# Altium schematic symbol library kmilo17pet-LT_ChargePump.SchLib: 599 symbols (part 2 of 29)
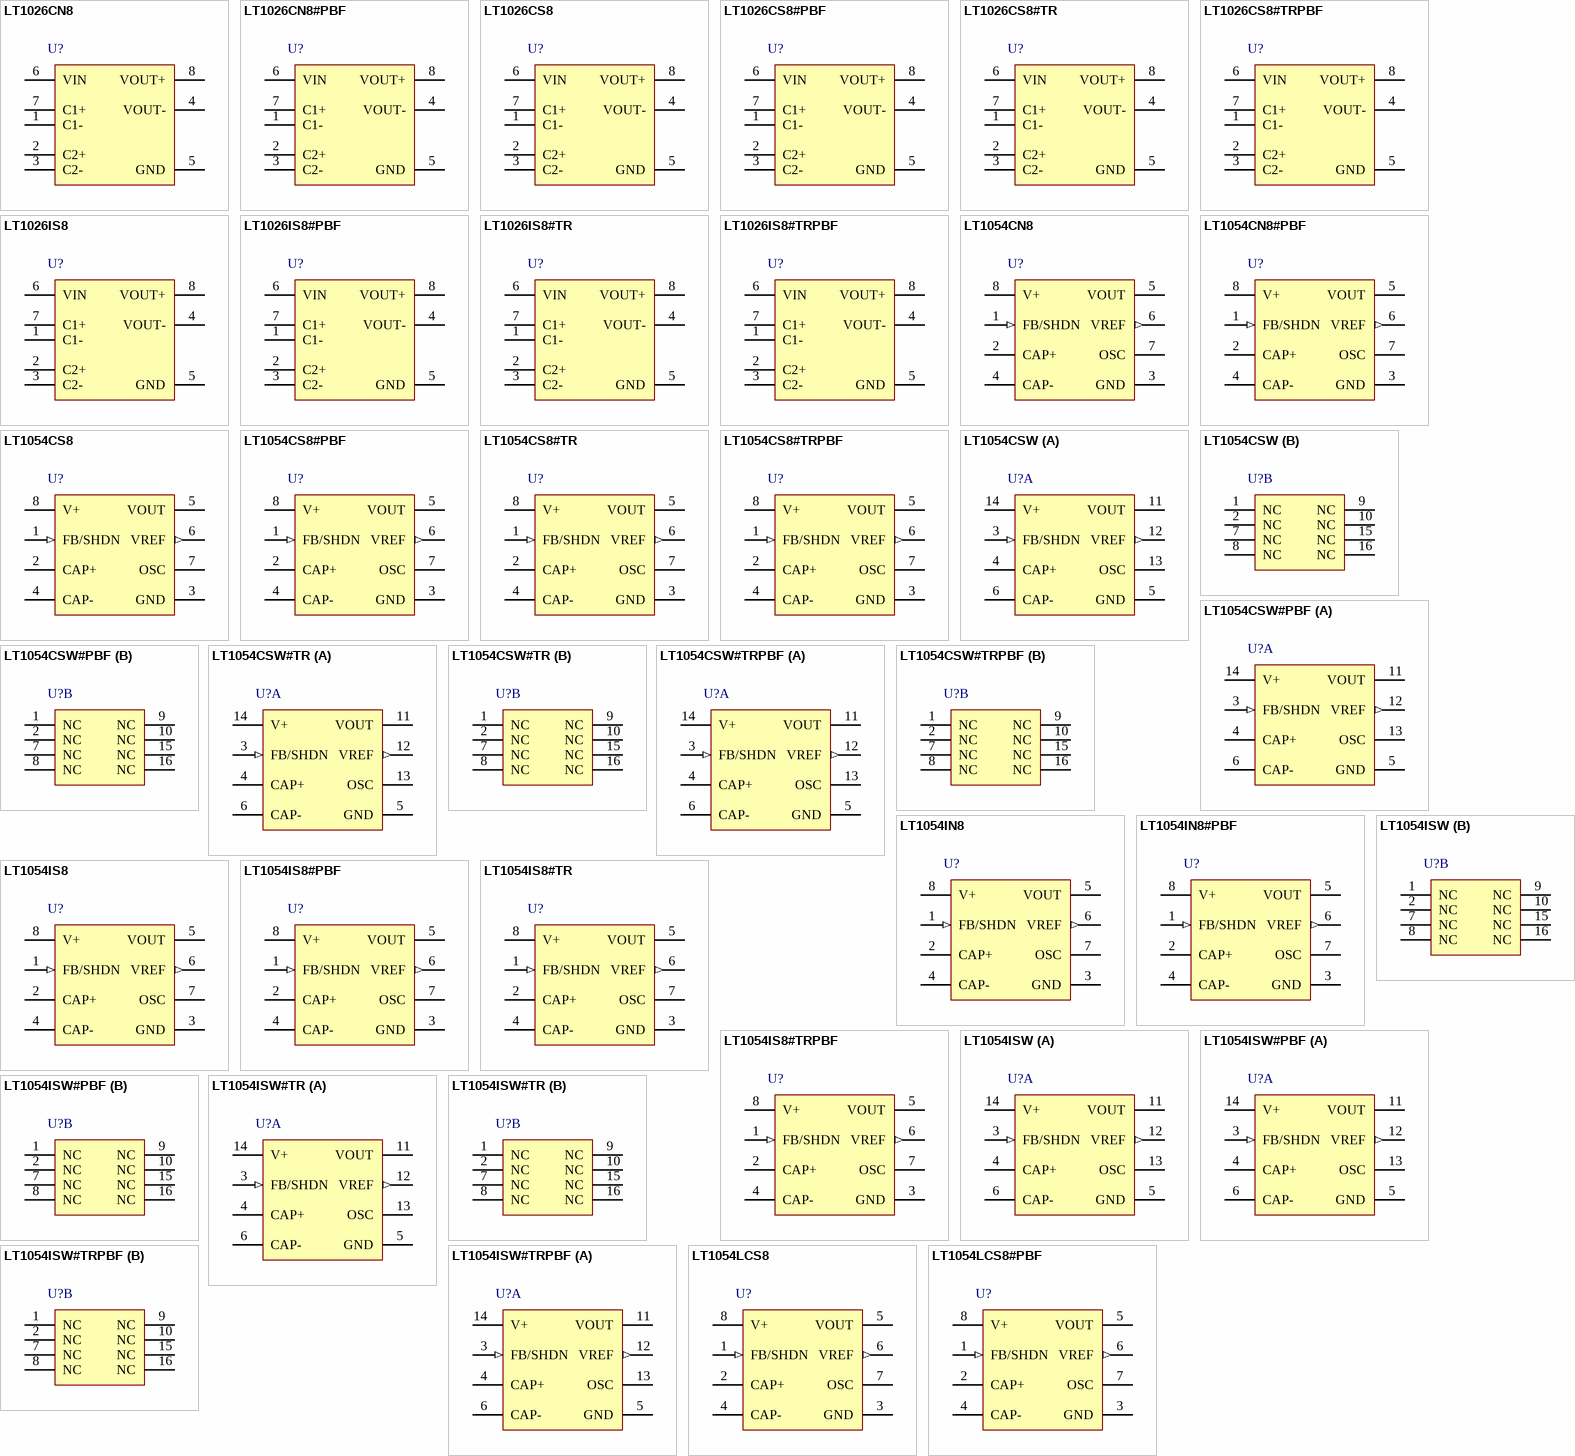
[diagram p17: symbols LT1026CN8 to LT1054LCS8#PBF]

## LT1054IS8#PBF
designator U?
Switched-Capacitor Voltage Converter with Regulator, 3.5 to 15 V Vin, Adjustable Vout, 8-pin SOIC (S8-8), -40 to 100 degC, Pb-Free; Manufacturer: Linear Technology; PartNumber: LT1054IS8#PBF; Frequency(kHz): 25; Ishutdown(uA): 100; Isupply(mA): 2.5; Vin Max(V): 15; Vin Min(V): 3.5; Voutput: Adj; DatasheetVersion: Rev. G; PackageVersion: Rev. G, 03/2012; PackageReference: S8-8; PackageDescription: 8-Pin Plastic Small Outline (Narrow .150 Inch), Body 4.9 x 3.9 mm, Pitch 1.27 mm; Supplier 1: Digi-Key; Supplier Part Number 1: LT1054IS8#PBF-ND; Supplier 2: Farnell; Supplier Part Number 2: 1663341; Supplier 3: Newark; Supplier Part Number 3: 57M1198; Max Iout(mA): 100; RoHS: TRUE; Mounting Technology: Surface Mount; ComponentLink1Description: Manufacturer URL; ComponentLink1URL: http://www.linear.com/; ComponentLink2Description: Datasheet; ComponentLink2URL: http://cds.linear.com/docs/en/datasheet/1054lfg.pdf; ComponentLink3Description: Package Specification; ComponentLink3URL: http://cds.linear.com/docs/en/packaging/05081610_G_SO8.pdf
footprint LT-S8-8_N (SOIC, 8-Leads, Body 5x4mm, Pitch 1.27mm, IPC Medium Density)
footprint LT-S8-8_L (SOIC, 8-Leads, Body 5x4mm, Pitch 1.27mm, IPC High Density)
footprint LT-S8-8_M (SOIC, 8-Leads, Body 5x4mm, Pitch 1.27mm, IPC Low Density)
pins: 1 FB/SHDN (in), 2 CAP+ "Pin 2, the positive side of the input capacitor (CIN), is alternately driven between V + and ground. When driven to V+, Pin 2 sources current from V+. When driven to ground Pin 2 sinks current to ground. Pin 4, the negative (See Datasheet)", 3 GND (power), 4 CAP- "Pin 2, the positive side of the input capacitor (CIN), is alternately driven between V + and ground. When driven to V+, Pin 2 sources current from V+. When driven to ground Pin 2 sinks current to ground. Pin 4, the negative (See Datasheet)", 5 VOUT (power) "In addition to being the output pin this pin is also tied to the substrate of the device. Special care must be taken in LT1054 circuits to avoid pulling this pin positive with respect to any of the other pins. Pulling Pin 5 (See Datasheet)", 6 VREF (out) "Reference Output. This pin provides a 2.5V reference point for use in LT1054-based regulator circuits. The temperature coefficient of the reference voltage has been adjusted so that the temperature coefficient of the (See Datasheet)", 7 OSC "Oscillator Pin. This pin can be used to raise or lower the oscillator frequency or to synchronize the device to an external clock. Internally Pin 7 is connected to the oscillator timing capacitor (Ct  approx= 150pF) which is (See Datasheet)", 8 V+ (power) "Input Supply. The LT1054 alternately charges CIN to the input voltage when CIN is switched in parallel with the input supply and then transfers charge to COUT when CIN is switched in parallel with COUT. Switching occurs at (See Datasheet)"

## LT1054IS8#TR
designator U?
Switched-Capacitor Voltage Converter with Regulator, 3.5 to 15 V Vin, Adjustable Vout, 8-pin SOIC (S8-8), -40 to 100 degC, Tape and Reel; Manufacturer: Linear Technology; PartNumber: LT1054IS8#TR; Frequency(kHz): 25; Ishutdown(uA): 100; Isupply(mA): 2.5; Vin Max(V): 15; Vin Min(V): 3.5; Voutput: Adj; DatasheetVersion: Rev. G; PackageVersion: Rev. G, 03/2012; PackageReference: S8-8; PackageDescription: 8-Pin Plastic Small Outline (Narrow .150 Inch), Body 4.9 x 3.9 mm, Pitch 1.27 mm; Supplier 1: Digi-Key; Supplier Part Number 1: LT1054IS8#TR-ND; Supplier 2: Newark; Supplier Part Number 2: 57M1199; Max Iout(mA): 100; Packing: Tape and Reel; RoHS: FALSE; Mounting Technology: Surface Mount; ComponentLink1Description: Manufacturer URL; ComponentLink1URL: http://www.linear.com/; ComponentLink2Description: Datasheet; ComponentLink2URL: http://cds.linear.com/docs/en/datasheet/1054lfg.pdf; ComponentLink3Description: Package Specification; ComponentLink3URL: http://cds.linear.com/docs/en/packaging/05081610_G_SO8.pdf
footprint LT-S8-8_N (SOIC, 8-Leads, Body 5x4mm, Pitch 1.27mm, IPC Medium Density)
footprint LT-S8-8_L (SOIC, 8-Leads, Body 5x4mm, Pitch 1.27mm, IPC High Density)
footprint LT-S8-8_M (SOIC, 8-Leads, Body 5x4mm, Pitch 1.27mm, IPC Low Density)
pins: 1 FB/SHDN (in), 2 CAP+ "Pin 2, the positive side of the input capacitor (CIN), is alternately driven between V + and ground. When driven to V+, Pin 2 sources current from V+. When driven to ground Pin 2 sinks current to ground. Pin 4, the negative (See Datasheet)", 3 GND (power), 4 CAP- "Pin 2, the positive side of the input capacitor (CIN), is alternately driven between V + and ground. When driven to V+, Pin 2 sources current from V+. When driven to ground Pin 2 sinks current to ground. Pin 4, the negative (See Datasheet)", 5 VOUT (power) "In addition to being the output pin this pin is also tied to the substrate of the device. Special care must be taken in LT1054 circuits to avoid pulling this pin positive with respect to any of the other pins. Pulling Pin 5 (See Datasheet)", 6 VREF (out) "Reference Output. This pin provides a 2.5V reference point for use in LT1054-based regulator circuits. The temperature coefficient of the reference voltage has been adjusted so that the temperature coefficient of the (See Datasheet)", 7 OSC "Oscillator Pin. This pin can be used to raise or lower the oscillator frequency or to synchronize the device to an external clock. Internally Pin 7 is connected to the oscillator timing capacitor (Ct  approx= 150pF) which is (See Datasheet)", 8 V+ (power) "Input Supply. The LT1054 alternately charges CIN to the input voltage when CIN is switched in parallel with the input supply and then transfers charge to COUT when CIN is switched in parallel with COUT. Switching occurs at (See Datasheet)"

## LT1054IS8#TRPBF
designator U?
Switched-Capacitor Voltage Converter with Regulator, 3.5 to 15 V Vin, Adjustable Vout, 8-pin SOIC (S8-8), -40 to 100 degC, Pb-Free, Tape and Reel; Manufacturer: Linear Technology; PartNumber: LT1054IS8#TRPBF; Frequency(kHz): 25; Ishutdown(uA): 100; Isupply(mA): 2.5; Vin Max(V): 15; Vin Min(V): 3.5; Voutput: Adj; DatasheetVersion: Rev. G; PackageVersion: Rev. G, 03/2012; PackageReference: S8-8; PackageDescription: 8-Pin Plastic Small Outline (Narrow .150 Inch), Body 4.9 x 3.9 mm, Pitch 1.27 mm; Supplier 1: Digi-Key; Supplier Part Number 1: LT1054IS8#TRPBF-ND; Supplier 2: Newark; Supplier Part Number 2: 57M1200; Max Iout(mA): 100; Packing: Tape and Reel; RoHS: TRUE; Mounting Technology: Surface Mount; ComponentLink1Description: Manufacturer URL; ComponentLink1URL: http://www.linear.com/; ComponentLink2Description: Datasheet; ComponentLink2URL: http://cds.linear.com/docs/en/datasheet/1054lfg.pdf; ComponentLink3Description: Package Specification; ComponentLink3URL: http://cds.linear.com/docs/en/packaging/05081610_G_SO8.pdf
footprint LT-S8-8_N (SOIC, 8-Leads, Body 5x4mm, Pitch 1.27mm, IPC Medium Density)
footprint LT-S8-8_L (SOIC, 8-Leads, Body 5x4mm, Pitch 1.27mm, IPC High Density)
footprint LT-S8-8_M (SOIC, 8-Leads, Body 5x4mm, Pitch 1.27mm, IPC Low Density)
pins: 1 FB/SHDN (in), 2 CAP+ "Pin 2, the positive side of the input capacitor (CIN), is alternately driven between V + and ground. When driven to V+, Pin 2 sources current from V+. When driven to ground Pin 2 sinks current to ground. Pin 4, the negative (See Datasheet)", 3 GND (power), 4 CAP- "Pin 2, the positive side of the input capacitor (CIN), is alternately driven between V + and ground. When driven to V+, Pin 2 sources current from V+. When driven to ground Pin 2 sinks current to ground. Pin 4, the negative (See Datasheet)", 5 VOUT (power) "In addition to being the output pin this pin is also tied to the substrate of the device. Special care must be taken in LT1054 circuits to avoid pulling this pin positive with respect to any of the other pins. Pulling Pin 5 (See Datasheet)", 6 VREF (out) "Reference Output. This pin provides a 2.5V reference point for use in LT1054-based regulator circuits. The temperature coefficient of the reference voltage has been adjusted so that the temperature coefficient of the (See Datasheet)", 7 OSC "Oscillator Pin. This pin can be used to raise or lower the oscillator frequency or to synchronize the device to an external clock. Internally Pin 7 is connected to the oscillator timing capacitor (Ct  approx= 150pF) which is (See Datasheet)", 8 V+ (power) "Input Supply. The LT1054 alternately charges CIN to the input voltage when CIN is switched in parallel with the input supply and then transfers charge to COUT when CIN is switched in parallel with COUT. Switching occurs at (See Datasheet)"

## LT1054ISW
designator U?
Switched-Capacitor Voltage Converter with Regulator, 3.5 to 15 V Vin, Adjustable Vout, 16-pin SOIC (SW-16), -40 to 100 degC; Manufacturer: Linear Technology; PartNumber: LT1054ISW; Frequency(kHz): 25; Ishutdown(uA): 100; Isupply(mA): 2.5; Vin Max(V): 15; Vin Min(V): 3.5; Voutput: Adj; DatasheetVersion: Rev. G; PackageVersion: Jun-10; PackageReference: SW-16; PackageDescription: 16-Pin Plastic Small Outline, Body 10.30 x 7.49 mm, Pitch 1.27 mm; Supplier 1: Digi-Key; Supplier Part Number 1: LT1054ISW-ND; Max Iout(mA): 100; RoHS: FALSE; Mounting Technology: Surface Mount; ComponentLink1Description: Manufacturer URL; ComponentLink1URL: http://www.linear.com/; ComponentLink2Description: Datasheet; ComponentLink2URL: http://cds.linear.com/docs/en/datasheet/1054lfg.pdf; ComponentLink3Description: Package Specification; ComponentLink3URL: http://www.linear.com/docs/en/packaging/SO_16_05-08-1620.pdf
footprint LT-SW-16_N (SOIC, 16-Leads, Body 10.3x7.49mm, Pitch 1.27mm, IPC Medium Density)
footprint LT-SW-16_L (SOIC, 16-Leads, Body 10.3x7.49mm, Pitch 1.27mm, IPC High Density)
footprint LT-SW-16_M (SOIC, 16-Leads, Body 10.3x7.49mm, Pitch 1.27mm, IPC Low Density)
part A pins: 3 FB/SHDN (in), 4 CAP+ "Pin 2, the positive side of the input capacitor (CIN), is alternately driven between V + and ground. When driven to V+, Pin 2 sources current from V+. When driven to ground Pin 2 sinks current to ground. Pin 4, the negative (See Datasheet)", 5 GND (power), 6 CAP- "Pin 2, the positive side of the input capacitor (CIN), is alternately driven between V + and ground. When driven to V+, Pin 2 sources current from V+. When driven to ground Pin 2 sinks current to ground. Pin 4, the negative (See Datasheet)", 11 VOUT (power) "In addition to being the output pin this pin is also tied to the substrate of the device. Special care must be taken in LT1054 circuits to avoid pulling this pin positive with respect to any of the other pins. Pulling Pin 5 (See Datasheet)", 12 VREF (out) "Reference Output. This pin provides a 2.5V reference point for use in LT1054-based regulator circuits. The temperature coefficient of the reference voltage has been adjusted so that the temperature coefficient of the (See Datasheet)", 13 OSC "Oscillator Pin. This pin can be used to raise or lower the oscillator frequency or to synchronize the device to an external clock. Internally Pin 7 is connected to the oscillator timing capacitor (Ct  approx= 150pF) which is (See Datasheet)", 14 V+ (power) "Input Supply. The LT1054 alternately charges CIN to the input voltage when CIN is switched in parallel with the input supply and then transfers charge to COUT when CIN is switched in parallel with COUT. Switching occurs at (See Datasheet)"
part B pins: 1 NC, 2 NC, 7 NC, 8 NC, 9 NC, 10 NC, 15 NC, 16 NC

## LT1054ISW#PBF
designator U?
Switched-Capacitor Voltage Converter with Regulator, 3.5 to 15 V Vin, Adjustable Vout, 16-pin SOIC (SW-16), -40 to 100 degC, Pb-Free; Manufacturer: Linear Technology; PartNumber: LT1054ISW#PBF; Frequency(kHz): 25; Ishutdown(uA): 100; Isupply(mA): 2.5; Vin Max(V): 15; Vin Min(V): 3.5; Voutput: Adj; DatasheetVersion: Rev. G; PackageVersion: Jun-10; PackageReference: SW-16; PackageDescription: 16-Pin Plastic Small Outline, Body 10.30 x 7.49 mm, Pitch 1.27 mm; Supplier 1: Digi-Key; Supplier Part Number 1: LT1054ISW#PBF-ND; Supplier 2: Farnell; Supplier Part Number 2: 2211398; Supplier 3: Newark; Supplier Part Number 3: 57M1194; Max Iout(mA): 100; RoHS: TRUE; Mounting Technology: Surface Mount; ComponentLink1Description: Manufacturer URL; ComponentLink1URL: http://www.linear.com/; ComponentLink2Description: Datasheet; ComponentLink2URL: http://cds.linear.com/docs/en/datasheet/1054lfg.pdf; ComponentLink3Description: Package Specification; ComponentLink3URL: http://www.linear.com/docs/en/packaging/SO_16_05-08-1620.pdf
footprint LT-SW-16_N (SOIC, 16-Leads, Body 10.3x7.49mm, Pitch 1.27mm, IPC Medium Density)
footprint LT-SW-16_L (SOIC, 16-Leads, Body 10.3x7.49mm, Pitch 1.27mm, IPC High Density)
footprint LT-SW-16_M (SOIC, 16-Leads, Body 10.3x7.49mm, Pitch 1.27mm, IPC Low Density)
part A pins: 3 FB/SHDN (in), 4 CAP+ "Pin 2, the positive side of the input capacitor (CIN), is alternately driven between V + and ground. When driven to V+, Pin 2 sources current from V+. When driven to ground Pin 2 sinks current to ground. Pin 4, the negative (See Datasheet)", 5 GND (power), 6 CAP- "Pin 2, the positive side of the input capacitor (CIN), is alternately driven between V + and ground. When driven to V+, Pin 2 sources current from V+. When driven to ground Pin 2 sinks current to ground. Pin 4, the negative (See Datasheet)", 11 VOUT (power) "In addition to being the output pin this pin is also tied to the substrate of the device. Special care must be taken in LT1054 circuits to avoid pulling this pin positive with respect to any of the other pins. Pulling Pin 5 (See Datasheet)", 12 VREF (out) "Reference Output. This pin provides a 2.5V reference point for use in LT1054-based regulator circuits. The temperature coefficient of the reference voltage has been adjusted so that the temperature coefficient of the (See Datasheet)", 13 OSC "Oscillator Pin. This pin can be used to raise or lower the oscillator frequency or to synchronize the device to an external clock. Internally Pin 7 is connected to the oscillator timing capacitor (Ct  approx= 150pF) which is (See Datasheet)", 14 V+ (power) "Input Supply. The LT1054 alternately charges CIN to the input voltage when CIN is switched in parallel with the input supply and then transfers charge to COUT when CIN is switched in parallel with COUT. Switching occurs at (See Datasheet)"
part B pins: 1 NC, 2 NC, 7 NC, 8 NC, 9 NC, 10 NC, 15 NC, 16 NC

## LT1054ISW#TR
designator U?
Switched-Capacitor Voltage Converter with Regulator, 3.5 to 15 V Vin, Adjustable Vout, 16-pin SOIC (SW-16), -40 to 100 degC, Tape and Reel; Manufacturer: Linear Technology; PartNumber: LT1054ISW#TR; Frequency(kHz): 25; Ishutdown(uA): 100; Isupply(mA): 2.5; Vin Max(V): 15; Vin Min(V): 3.5; Voutput: Adj; DatasheetVersion: Rev. G; PackageVersion: Jun-10; PackageReference: SW-16; PackageDescription: 16-Pin Plastic Small Outline, Body 10.30 x 7.49 mm, Pitch 1.27 mm; Supplier 1: Digi-Key; Supplier Part Number 1: LT1054ISW#TR-ND; Max Iout(mA): 100; Packing: Tape and Reel; RoHS: FALSE; Mounting Technology: Surface Mount; ComponentLink1Description: Manufacturer URL; ComponentLink1URL: http://www.linear.com/; ComponentLink2Description: Datasheet; ComponentLink2URL: http://cds.linear.com/docs/en/datasheet/1054lfg.pdf; ComponentLink3Description: Package Specification; ComponentLink3URL: http://www.linear.com/docs/en/packaging/SO_16_05-08-1620.pdf
footprint LT-SW-16_N (SOIC, 16-Leads, Body 10.3x7.49mm, Pitch 1.27mm, IPC Medium Density)
footprint LT-SW-16_L (SOIC, 16-Leads, Body 10.3x7.49mm, Pitch 1.27mm, IPC High Density)
footprint LT-SW-16_M (SOIC, 16-Leads, Body 10.3x7.49mm, Pitch 1.27mm, IPC Low Density)
part A pins: 3 FB/SHDN (in), 4 CAP+ "Pin 2, the positive side of the input capacitor (CIN), is alternately driven between V + and ground. When driven to V+, Pin 2 sources current from V+. When driven to ground Pin 2 sinks current to ground. Pin 4, the negative (See Datasheet)", 5 GND (power), 6 CAP- "Pin 2, the positive side of the input capacitor (CIN), is alternately driven between V + and ground. When driven to V+, Pin 2 sources current from V+. When driven to ground Pin 2 sinks current to ground. Pin 4, the negative (See Datasheet)", 11 VOUT (power) "In addition to being the output pin this pin is also tied to the substrate of the device. Special care must be taken in LT1054 circuits to avoid pulling this pin positive with respect to any of the other pins. Pulling Pin 5 (See Datasheet)", 12 VREF (out) "Reference Output. This pin provides a 2.5V reference point for use in LT1054-based regulator circuits. The temperature coefficient of the reference voltage has been adjusted so that the temperature coefficient of the (See Datasheet)", 13 OSC "Oscillator Pin. This pin can be used to raise or lower the oscillator frequency or to synchronize the device to an external clock. Internally Pin 7 is connected to the oscillator timing capacitor (Ct  approx= 150pF) which is (See Datasheet)", 14 V+ (power) "Input Supply. The LT1054 alternately charges CIN to the input voltage when CIN is switched in parallel with the input supply and then transfers charge to COUT when CIN is switched in parallel with COUT. Switching occurs at (See Datasheet)"
part B pins: 1 NC, 2 NC, 7 NC, 8 NC, 9 NC, 10 NC, 15 NC, 16 NC

## LT1054ISW#TRPBF
designator U?
Switched-Capacitor Voltage Converter with Regulator, 3.5 to 15 V Vin, Adjustable Vout, 16-pin SOIC (SW-16), -40 to 100 degC, Pb-Free, Tape and Reel; Manufacturer: Linear Technology; PartNumber: LT1054ISW#TRPBF; Frequency(kHz): 25; Ishutdown(uA): 100; Isupply(mA): 2.5; Vin Max(V): 15; Vin Min(V): 3.5; Voutput: Adj; DatasheetVersion: Rev. G; PackageVersion: Jun-10; PackageReference: SW-16; PackageDescription: 16-Pin Plastic Small Outline, Body 10.30 x 7.49 mm, Pitch 1.27 mm; Supplier 1: Digi-Key; Supplier Part Number 1: LT1054ISW#TRPBF-ND; Max Iout(mA): 100; Packing: Tape and Reel; RoHS: TRUE; Mounting Technology: Surface Mount; ComponentLink1Description: Manufacturer URL; ComponentLink1URL: http://www.linear.com/; ComponentLink2Description: Datasheet; ComponentLink2URL: http://cds.linear.com/docs/en/datasheet/1054lfg.pdf; ComponentLink3Description: Package Specification; ComponentLink3URL: http://www.linear.com/docs/en/packaging/SO_16_05-08-1620.pdf
footprint LT-SW-16_N (SOIC, 16-Leads, Body 10.3x7.49mm, Pitch 1.27mm, IPC Medium Density)
footprint LT-SW-16_L (SOIC, 16-Leads, Body 10.3x7.49mm, Pitch 1.27mm, IPC High Density)
footprint LT-SW-16_M (SOIC, 16-Leads, Body 10.3x7.49mm, Pitch 1.27mm, IPC Low Density)
part A pins: 3 FB/SHDN (in), 4 CAP+ "Pin 2, the positive side of the input capacitor (CIN), is alternately driven between V + and ground. When driven to V+, Pin 2 sources current from V+. When driven to ground Pin 2 sinks current to ground. Pin 4, the negative (See Datasheet)", 5 GND (power), 6 CAP- "Pin 2, the positive side of the input capacitor (CIN), is alternately driven between V + and ground. When driven to V+, Pin 2 sources current from V+. When driven to ground Pin 2 sinks current to ground. Pin 4, the negative (See Datasheet)", 11 VOUT (power) "In addition to being the output pin this pin is also tied to the substrate of the device. Special care must be taken in LT1054 circuits to avoid pulling this pin positive with respect to any of the other pins. Pulling Pin 5 (See Datasheet)", 12 VREF (out) "Reference Output. This pin provides a 2.5V reference point for use in LT1054-based regulator circuits. The temperature coefficient of the reference voltage has been adjusted so that the temperature coefficient of the (See Datasheet)", 13 OSC "Oscillator Pin. This pin can be used to raise or lower the oscillator frequency or to synchronize the device to an external clock. Internally Pin 7 is connected to the oscillator timing capacitor (Ct  approx= 150pF) which is (See Datasheet)", 14 V+ (power) "Input Supply. The LT1054 alternately charges CIN to the input voltage when CIN is switched in parallel with the input supply and then transfers charge to COUT when CIN is switched in parallel with COUT. Switching occurs at (See Datasheet)"
part B pins: 1 NC, 2 NC, 7 NC, 8 NC, 9 NC, 10 NC, 15 NC, 16 NC

## LT1054LCS8
designator U?
Switched-Capacitor Voltage Converter with Regulator, 3.5 to 7 V Vin, Adjustable Vout, 8-pin SOIC (S8-8), 0 to 100 degC; Manufacturer: Linear Technology; PartNumber: LT1054LCS8; Frequency(kHz): 25; Ishutdown(uA): 100; Isupply(mA): 2.5; Max Iout(mA): 125; Vin Max(V): 7; Vin Min(V): 3.5; Voutput: Adj; DatasheetVersion: Rev. G; PackageVersion: Rev. G, 03/2012; PackageReference: S8-8; PackageDescription: 8-Pin Plastic Small Outline (Narrow .150 Inch), Body 4.9 x 3.9 mm, Pitch 1.27 mm; Supplier 1: Digi-Key; Supplier Part Number 1: LT1054LCS8-ND; RoHS: FALSE; Mounting Technology: Surface Mount; ComponentLink1Description: Manufacturer URL; ComponentLink1URL: http://www.linear.com/; ComponentLink2Description: Datasheet; ComponentLink2URL: http://cds.linear.com/docs/en/datasheet/1054lfg.pdf; ComponentLink3Description: Package Specification; ComponentLink3URL: http://cds.linear.com/docs/en/packaging/05081610_G_SO8.pdf
footprint LT-S8-8_N (SOIC, 8-Leads, Body 5x4mm, Pitch 1.27mm, IPC Medium Density)
footprint LT-S8-8_L (SOIC, 8-Leads, Body 5x4mm, Pitch 1.27mm, IPC High Density)
footprint LT-S8-8_M (SOIC, 8-Leads, Body 5x4mm, Pitch 1.27mm, IPC Low Density)
pins: 1 FB/SHDN (in), 2 CAP+ "Pin 2, the positive side of the input capacitor (CIN), is alternately driven between V + and ground. When driven to V+, Pin 2 sources current from V+. When driven to ground Pin 2 sinks current to ground. Pin 4, the negative (See Datasheet)", 3 GND (power), 4 CAP- "Pin 2, the positive side of the input capacitor (CIN), is alternately driven between V + and ground. When driven to V+, Pin 2 sources current from V+. When driven to ground Pin 2 sinks current to ground. Pin 4, the negative (See Datasheet)", 5 VOUT (power) "In addition to being the output pin this pin is also tied to the substrate of the device. Special care must be taken in LT1054 circuits to avoid pulling this pin positive with respect to any of the other pins. Pulling Pin 5 (See Datasheet)", 6 VREF (out) "Reference Output. This pin provides a 2.5V reference point for use in LT1054-based regulator circuits. The temperature coefficient of the reference voltage has been adjusted so that the temperature coefficient of the (See Datasheet)", 7 OSC "Oscillator Pin. This pin can be used to raise or lower the oscillator frequency or to synchronize the device to an external clock. Internally Pin 7 is connected to the oscillator timing capacitor (Ct  approx= 150pF) which is (See Datasheet)", 8 V+ (power) "Input Supply. The LT1054 alternately charges CIN to the input voltage when CIN is switched in parallel with the input supply and then transfers charge to COUT when CIN is switched in parallel with COUT. Switching occurs at (See Datasheet)"

## LT1054LCS8#PBF
designator U?
Switched-Capacitor Voltage Converter with Regulator, 3.5 to 7 V Vin, Adjustable Vout, 8-pin SOIC (S8-8), 0 to 100 degC, Pb-Free; Manufacturer: Linear Technology; PartNumber: LT1054LCS8#PBF; Frequency(kHz): 25; Ishutdown(uA): 100; Isupply(mA): 2.5; Max Iout(mA): 125; Vin Max(V): 7; Vin Min(V): 3.5; Voutput: Adj; DatasheetVersion: Rev. G; PackageVersion: Rev. G, 03/2012; PackageReference: S8-8; PackageDescription: 8-Pin Plastic Small Outline (Narrow .150 Inch), Body 4.9 x 3.9 mm, Pitch 1.27 mm; Supplier 1: Digi-Key; Supplier Part Number 1: LT1054LCS8#PBF-ND; Supplier 2: Farnell; Supplier Part Number 2: 1663342; Supplier 3: Newark; Supplier Part Number 3: 57M1202; RoHS: TRUE; Mounting Technology: Surface Mount; ComponentLink1Description: Manufacturer URL; ComponentLink1URL: http://www.linear.com/; ComponentLink2Description: Datasheet; ComponentLink2URL: http://cds.linear.com/docs/en/datasheet/1054lfg.pdf; ComponentLink3Description: Package Specification; ComponentLink3URL: http://cds.linear.com/docs/en/packaging/05081610_G_SO8.pdf
footprint LT-S8-8_N (SOIC, 8-Leads, Body 5x4mm, Pitch 1.27mm, IPC Medium Density)
footprint LT-S8-8_L (SOIC, 8-Leads, Body 5x4mm, Pitch 1.27mm, IPC High Density)
footprint LT-S8-8_M (SOIC, 8-Leads, Body 5x4mm, Pitch 1.27mm, IPC Low Density)
pins: 1 FB/SHDN (in), 2 CAP+ "Pin 2, the positive side of the input capacitor (CIN), is alternately driven between V + and ground. When driven to V+, Pin 2 sources current from V+. When driven to ground Pin 2 sinks current to ground. Pin 4, the negative (See Datasheet)", 3 GND (power), 4 CAP- "Pin 2, the positive side of the input capacitor (CIN), is alternately driven between V + and ground. When driven to V+, Pin 2 sources current from V+. When driven to ground Pin 2 sinks current to ground. Pin 4, the negative (See Datasheet)", 5 VOUT (power) "In addition to being the output pin this pin is also tied to the substrate of the device. Special care must be taken in LT1054 circuits to avoid pulling this pin positive with respect to any of the other pins. Pulling Pin 5 (See Datasheet)", 6 VREF (out) "Reference Output. This pin provides a 2.5V reference point for use in LT1054-based regulator circuits. The temperature coefficient of the reference voltage has been adjusted so that the temperature coefficient of the (See Datasheet)", 7 OSC "Oscillator Pin. This pin can be used to raise or lower the oscillator frequency or to synchronize the device to an external clock. Internally Pin 7 is connected to the oscillator timing capacitor (Ct  approx= 150pF) which is (See Datasheet)", 8 V+ (power) "Input Supply. The LT1054 alternately charges CIN to the input voltage when CIN is switched in parallel with the input supply and then transfers charge to COUT when CIN is switched in parallel with COUT. Switching occurs at (See Datasheet)"

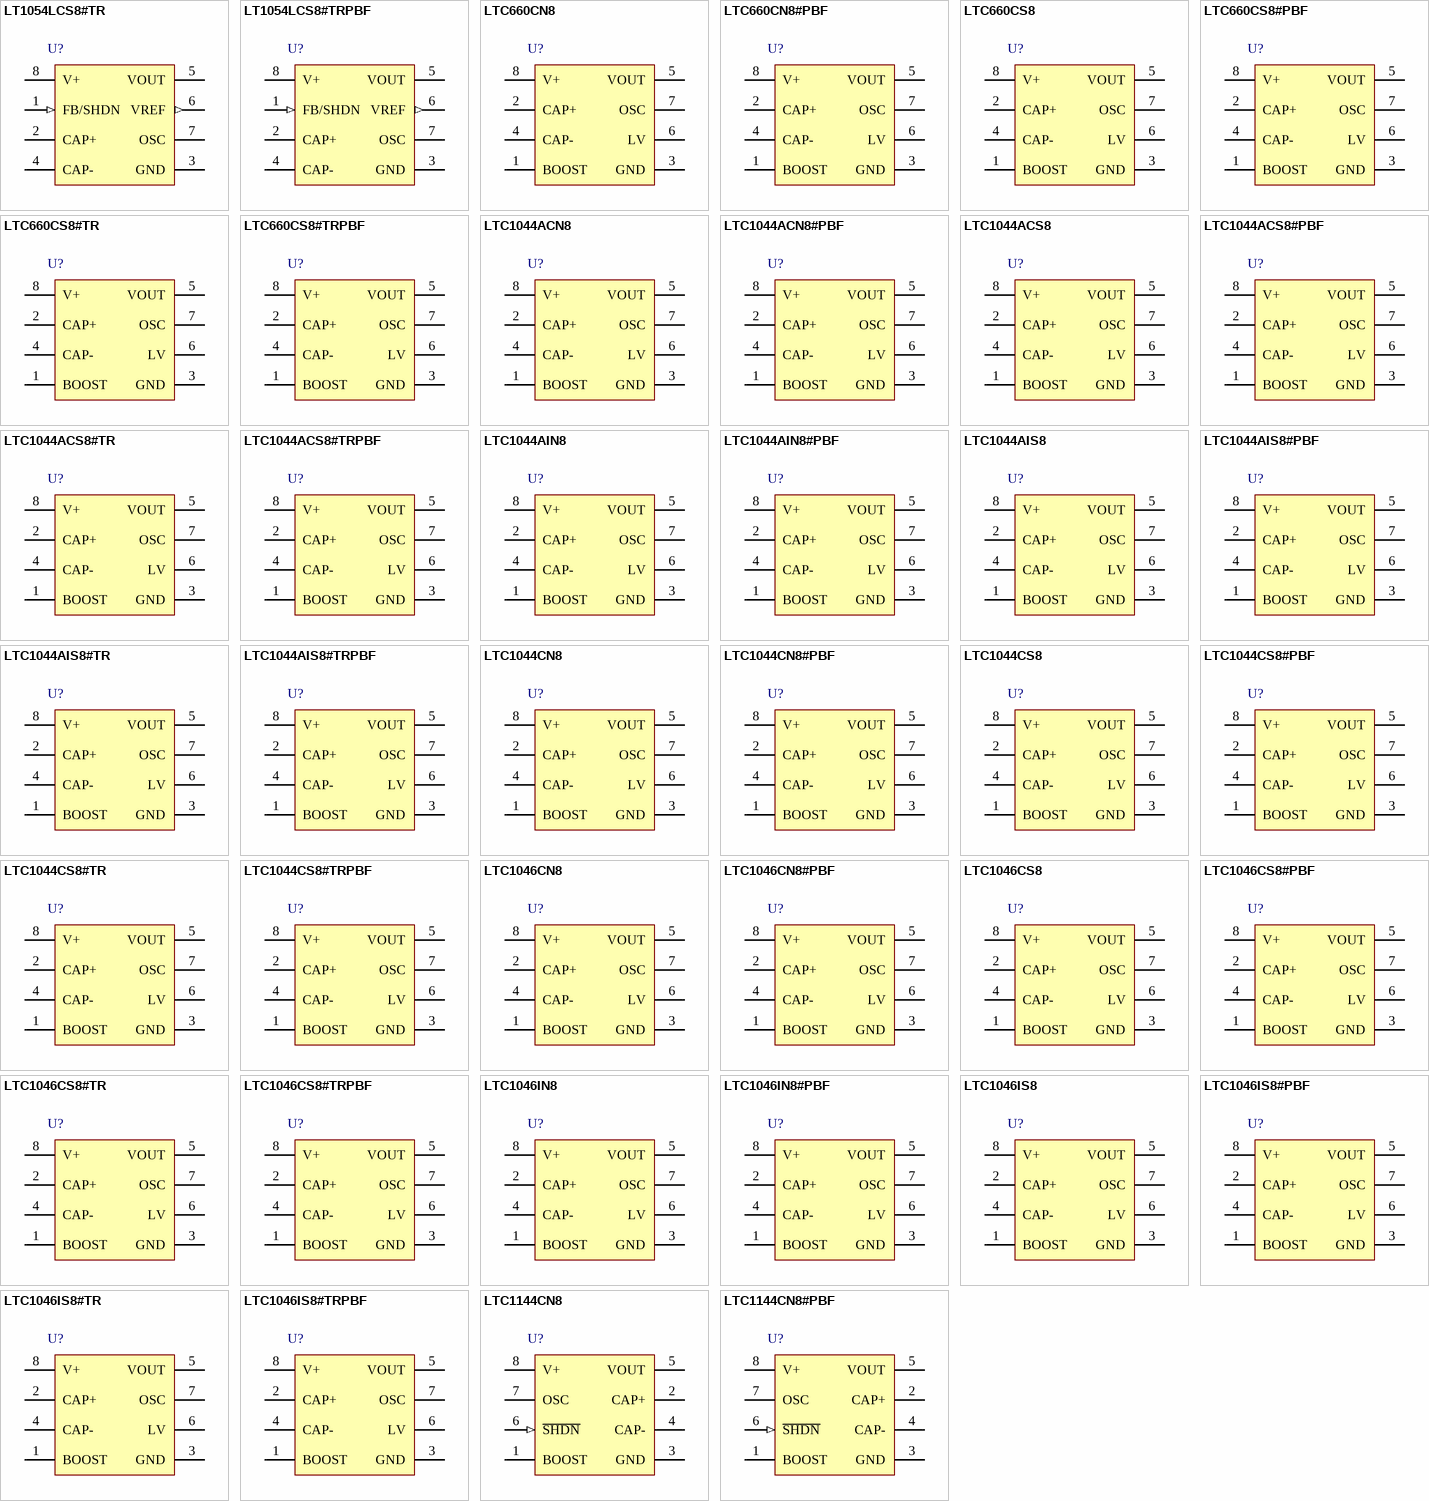
[diagram p1: symbols LT1054LCS8#TR to LTC1144CN8#PBF]

## LT1054LCS8#TR
designator U?
Switched-Capacitor Voltage Converter with Regulator, 3.5 to 7 V Vin, Adjustable Vout, 8-pin SOIC (S8-8), 0 to 100 degC, Tape and Reel; Manufacturer: Linear Technology; PartNumber: LT1054LCS8#TR; Frequency(kHz): 25; Ishutdown(uA): 100; Isupply(mA): 2.5; Max Iout(mA): 125; Vin Max(V): 7; Vin Min(V): 3.5; Voutput: Adj; DatasheetVersion: Rev. G; PackageVersion: Rev. G, 03/2012; PackageReference: S8-8; PackageDescription: 8-Pin Plastic Small Outline (Narrow .150 Inch), Body 4.9 x 3.9 mm, Pitch 1.27 mm; Supplier 1: Digi-Key; Supplier Part Number 1: LT1054LCS8#TR-ND; Packing: Tape and Reel; RoHS: FALSE; Mounting Technology: Surface Mount; ComponentLink1Description: Manufacturer URL; ComponentLink1URL: http://www.linear.com/; ComponentLink2Description: Datasheet; ComponentLink2URL: http://cds.linear.com/docs/en/datasheet/1054lfg.pdf; ComponentLink3Description: Package Specification; ComponentLink3URL: http://cds.linear.com/docs/en/packaging/05081610_G_SO8.pdf
footprint LT-S8-8_N (SOIC, 8-Leads, Body 5x4mm, Pitch 1.27mm, IPC Medium Density)
footprint LT-S8-8_L (SOIC, 8-Leads, Body 5x4mm, Pitch 1.27mm, IPC High Density)
footprint LT-S8-8_M (SOIC, 8-Leads, Body 5x4mm, Pitch 1.27mm, IPC Low Density)
pins: 1 FB/SHDN (in), 2 CAP+ "Pin 2, the positive side of the input capacitor (CIN), is alternately driven between V + and ground. When driven to V+, Pin 2 sources current from V+. When driven to ground Pin 2 sinks current to ground. Pin 4, the negative (See Datasheet)", 3 GND (power), 4 CAP- "Pin 2, the positive side of the input capacitor (CIN), is alternately driven between V + and ground. When driven to V+, Pin 2 sources current from V+. When driven to ground Pin 2 sinks current to ground. Pin 4, the negative (See Datasheet)", 5 VOUT (power) "In addition to being the output pin this pin is also tied to the substrate of the device. Special care must be taken in LT1054 circuits to avoid pulling this pin positive with respect to any of the other pins. Pulling Pin 5 (See Datasheet)", 6 VREF (out) "Reference Output. This pin provides a 2.5V reference point for use in LT1054-based regulator circuits. The temperature coefficient of the reference voltage has been adjusted so that the temperature coefficient of the (See Datasheet)", 7 OSC "Oscillator Pin. This pin can be used to raise or lower the oscillator frequency or to synchronize the device to an external clock. Internally Pin 7 is connected to the oscillator timing capacitor (Ct  approx= 150pF) which is (See Datasheet)", 8 V+ (power) "Input Supply. The LT1054 alternately charges CIN to the input voltage when CIN is switched in parallel with the input supply and then transfers charge to COUT when CIN is switched in parallel with COUT. Switching occurs at (See Datasheet)"

## LT1054LCS8#TRPBF
designator U?
Switched-Capacitor Voltage Converter with Regulator, 3.5 to 7 V Vin, Adjustable Vout, 8-pin SOIC (S8-8), 0 to 100 degC, Pb-Free, Tape and Reel; Manufacturer: Linear Technology; PartNumber: LT1054LCS8#TRPBF; Frequency(kHz): 25; Ishutdown(uA): 100; Isupply(mA): 2.5; Max Iout(mA): 125; Vin Max(V): 7; Vin Min(V): 3.5; Voutput: Adj; DatasheetVersion: Rev. G; PackageVersion: Rev. G, 03/2012; PackageReference: S8-8; PackageDescription: 8-Pin Plastic Small Outline (Narrow .150 Inch), Body 4.9 x 3.9 mm, Pitch 1.27 mm; Supplier 1: Digi-Key; Supplier Part Number 1: LT1054LCS8#TRPBF-ND; Supplier 2: Newark; Supplier Part Number 2: 57M1204; Packing: Tape and Reel; RoHS: TRUE; Mounting Technology: Surface Mount; ComponentLink1Description: Manufacturer URL; ComponentLink1URL: http://www.linear.com/; ComponentLink2Description: Datasheet; ComponentLink2URL: http://cds.linear.com/docs/en/datasheet/1054lfg.pdf; ComponentLink3Description: Package Specification; ComponentLink3URL: http://cds.linear.com/docs/en/packaging/05081610_G_SO8.pdf
footprint LT-S8-8_N (SOIC, 8-Leads, Body 5x4mm, Pitch 1.27mm, IPC Medium Density)
footprint LT-S8-8_L (SOIC, 8-Leads, Body 5x4mm, Pitch 1.27mm, IPC High Density)
footprint LT-S8-8_M (SOIC, 8-Leads, Body 5x4mm, Pitch 1.27mm, IPC Low Density)
pins: 1 FB/SHDN (in), 2 CAP+ "Pin 2, the positive side of the input capacitor (CIN), is alternately driven between V + and ground. When driven to V+, Pin 2 sources current from V+. When driven to ground Pin 2 sinks current to ground. Pin 4, the negative (See Datasheet)", 3 GND (power), 4 CAP- "Pin 2, the positive side of the input capacitor (CIN), is alternately driven between V + and ground. When driven to V+, Pin 2 sources current from V+. When driven to ground Pin 2 sinks current to ground. Pin 4, the negative (See Datasheet)", 5 VOUT (power) "In addition to being the output pin this pin is also tied to the substrate of the device. Special care must be taken in LT1054 circuits to avoid pulling this pin positive with respect to any of the other pins. Pulling Pin 5 (See Datasheet)", 6 VREF (out) "Reference Output. This pin provides a 2.5V reference point for use in LT1054-based regulator circuits. The temperature coefficient of the reference voltage has been adjusted so that the temperature coefficient of the (See Datasheet)", 7 OSC "Oscillator Pin. This pin can be used to raise or lower the oscillator frequency or to synchronize the device to an external clock. Internally Pin 7 is connected to the oscillator timing capacitor (Ct  approx= 150pF) which is (See Datasheet)", 8 V+ (power) "Input Supply. The LT1054 alternately charges CIN to the input voltage when CIN is switched in parallel with the input supply and then transfers charge to COUT when CIN is switched in parallel with COUT. Switching occurs at (See Datasheet)"

## LTC660CN8
designator U?
100 mA CMOS Voltage Converter, 1.5 to 5.5 V Vin, 8-pin DIP (N8-8), 0 to 70 degC; Manufacturer: Linear Technology; PartNumber: LTC660CN8; Frequency(kHz): 80; Ishutdown(uA): 1; Isupply(mA): 0.23; Vin Max(V): 5.5; Vin Min(V): 1.5; Voutput: -VIN, 2VIN; DatasheetVersion: Rev. A; PackageVersion: Rev. I, 07/2011; PackageReference: N8-8; PackageDescription: 8-Pin PDIP, Body 10.16 x 6.48 mm, Pitch 2.54 mm; Supplier 1: Digi-Key; Supplier Part Number 1: LTC660CN8-ND; RoHS: FALSE; Mounting Technology: Through Hole; ComponentLink1Description: Manufacturer URL; ComponentLink1URL: http://www.linear.com/; ComponentLink2Description: Datasheet; ComponentLink2URL: http://cds.linear.com/docs/en/datasheet/660fa.pdf; ComponentLink3Description: Package Specification; ComponentLink3URL: http://www.linear.com/docs/en/packaging/05081510_I_N8.pdf
footprint LT-N8-8 (DIP, 8-Leads, Body 10.15x6.85mm, Pitch 2.54mm)
pins: 1 BOOST "Internal Oscillator Frequency Control Pin. BOOST = Open, fOSC = 10kHz typ; BOOST = V+, fOSC = 80kHz typ; when OSC is driven externally BOOST has no effect.", 2 CAP+ "Positive Terminal for Charge Pump Capacitor", 3 GND (power) "Power Supply Ground Input", 4 CAP- "Negative Terminal for Charge Pump Capacitor", 5 VOUT (power) "Negative Voltage Output", 6 LV "Tie LV to GND when the input voltage is less than 3V. LV may be connected to GND or left open for input voltages above 3V. Connect LV to GND when overdriving OSC.", 7 OSC "An external capacitor can be connected to this pin to slow the oscillator frequency. Keep stray capacitance to a minimum. An external oscillator can be applied to this pin to overdrive the internal oscillator.", 8 V+ (power) "Positive Voltage Input"

## LTC660CN8#PBF
designator U?
100 mA CMOS Voltage Converter, 1.5 to 5.5 V Vin, 8-pin DIP (N8-8), 0 to 70 degC, Pb-Free; Manufacturer: Linear Technology; PartNumber: LTC660CN8#PBF; Frequency(kHz): 80; Ishutdown(uA): 1; Isupply(mA): 0.23; Vin Max(V): 5.5; Vin Min(V): 1.5; Voutput: -VIN, 2VIN; DatasheetVersion: Rev. A; PackageVersion: Rev. I, 07/2011; PackageReference: N8-8; PackageDescription: 8-Pin PDIP, Body 10.16 x 6.48 mm, Pitch 2.54 mm; Supplier 1: Digi-Key; Supplier Part Number 1: LTC660CN8#PBF-ND; RoHS: TRUE; Mounting Technology: Through Hole; ComponentLink1Description: Manufacturer URL; ComponentLink1URL: http://www.linear.com/; ComponentLink2Description: Datasheet; ComponentLink2URL: http://cds.linear.com/docs/en/datasheet/660fa.pdf; ComponentLink3Description: Package Specification; ComponentLink3URL: http://www.linear.com/docs/en/packaging/05081510_I_N8.pdf
footprint LT-N8-8 (DIP, 8-Leads, Body 10.15x6.85mm, Pitch 2.54mm)
pins: 1 BOOST "Internal Oscillator Frequency Control Pin. BOOST = Open, fOSC = 10kHz typ; BOOST = V+, fOSC = 80kHz typ; when OSC is driven externally BOOST has no effect.", 2 CAP+ "Positive Terminal for Charge Pump Capacitor", 3 GND (power) "Power Supply Ground Input", 4 CAP- "Negative Terminal for Charge Pump Capacitor", 5 VOUT (power) "Negative Voltage Output", 6 LV "Tie LV to GND when the input voltage is less than 3V. LV may be connected to GND or left open for input voltages above 3V. Connect LV to GND when overdriving OSC.", 7 OSC "An external capacitor can be connected to this pin to slow the oscillator frequency. Keep stray capacitance to a minimum. An external oscillator can be applied to this pin to overdrive the internal oscillator.", 8 V+ (power) "Positive Voltage Input"

## LTC660CS8
designator U?
100 mA CMOS Voltage Converter, 1.5 to 5.5 V Vin, 8-pin SOIC (S8-8), 0 to 70 degC; Manufacturer: Linear Technology; PartNumber: LTC660CS8; Frequency(kHz): 80; Ishutdown(uA): 1; Isupply(mA): 0.23; Vin Max(V): 5.5; Vin Min(V): 1.5; Voutput: -VIN, 2VIN; DatasheetVersion: Rev. A; PackageVersion: Rev. G, 03/2012; PackageReference: S8-8; PackageDescription: 8-Pin Plastic Small Outline (Narrow .150 Inch), Body 4.9 x 3.9 mm, Pitch 1.27 mm; Supplier 1: Digi-Key; Supplier Part Number 1: LTC660CS8-ND; Supplier 2: Newark; Supplier Part Number 2: 57M0132; RoHS: FALSE; Mounting Technology: Surface Mount; ComponentLink1Description: Manufacturer URL; ComponentLink1URL: http://www.linear.com/; ComponentLink2Description: Datasheet; ComponentLink2URL: http://cds.linear.com/docs/en/datasheet/660fa.pdf; ComponentLink3Description: Package Specification; ComponentLink3URL: http://cds.linear.com/docs/en/packaging/05081610_G_SO8.pdf
footprint LT-S8-8_N (SOIC, 8-Leads, Body 5x4mm, Pitch 1.27mm, IPC Medium Density)
footprint LT-S8-8_L (SOIC, 8-Leads, Body 5x4mm, Pitch 1.27mm, IPC High Density)
footprint LT-S8-8_M (SOIC, 8-Leads, Body 5x4mm, Pitch 1.27mm, IPC Low Density)
pins: 1 BOOST "Internal Oscillator Frequency Control Pin. BOOST = Open, fOSC = 10kHz typ; BOOST = V+, fOSC = 80kHz typ; when OSC is driven externally BOOST has no effect.", 2 CAP+ "Positive Terminal for Charge Pump Capacitor", 3 GND (power) "Power Supply Ground Input", 4 CAP- "Negative Terminal for Charge Pump Capacitor", 5 VOUT (power) "Negative Voltage Output", 6 LV "Tie LV to GND when the input voltage is less than 3V. LV may be connected to GND or left open for input voltages above 3V. Connect LV to GND when overdriving OSC.", 7 OSC "An external capacitor can be connected to this pin to slow the oscillator frequency. Keep stray capacitance to a minimum. An external oscillator can be applied to this pin to overdrive the internal oscillator.", 8 V+ (power) "Positive Voltage Input"

## LTC660CS8#PBF
designator U?
100 mA CMOS Voltage Converter, 1.5 to 5.5 V Vin, 8-pin SOIC (S8-8), 0 to 70 degC, Pb-Free; Manufacturer: Linear Technology; PartNumber: LTC660CS8#PBF; Frequency(kHz): 80; Ishutdown(uA): 1; Isupply(mA): 0.23; Vin Max(V): 5.5; Vin Min(V): 1.5; Voutput: -VIN, 2VIN; DatasheetVersion: Rev. A; PackageVersion: Rev. G, 03/2012; PackageReference: S8-8; PackageDescription: 8-Pin Plastic Small Outline (Narrow .150 Inch), Body 4.9 x 3.9 mm, Pitch 1.27 mm; Supplier 1: Digi-Key; Supplier Part Number 1: LTC660CS8#PBF-ND; Supplier 2: Farnell; Supplier Part Number 2: 1274009; Supplier 3: Newark; Supplier Part Number 3: 57M0133; RoHS: TRUE; Mounting Technology: Surface Mount; ComponentLink1Description: Manufacturer URL; ComponentLink1URL: http://www.linear.com/; ComponentLink2Description: Datasheet; ComponentLink2URL: http://cds.linear.com/docs/en/datasheet/660fa.pdf; ComponentLink3Description: Package Specification; ComponentLink3URL: http://cds.linear.com/docs/en/packaging/05081610_G_SO8.pdf
footprint LT-S8-8_N (SOIC, 8-Leads, Body 5x4mm, Pitch 1.27mm, IPC Medium Density)
footprint LT-S8-8_L (SOIC, 8-Leads, Body 5x4mm, Pitch 1.27mm, IPC High Density)
footprint LT-S8-8_M (SOIC, 8-Leads, Body 5x4mm, Pitch 1.27mm, IPC Low Density)
pins: 1 BOOST "Internal Oscillator Frequency Control Pin. BOOST = Open, fOSC = 10kHz typ; BOOST = V+, fOSC = 80kHz typ; when OSC is driven externally BOOST has no effect.", 2 CAP+ "Positive Terminal for Charge Pump Capacitor", 3 GND (power) "Power Supply Ground Input", 4 CAP- "Negative Terminal for Charge Pump Capacitor", 5 VOUT (power) "Negative Voltage Output", 6 LV "Tie LV to GND when the input voltage is less than 3V. LV may be connected to GND or left open for input voltages above 3V. Connect LV to GND when overdriving OSC.", 7 OSC "An external capacitor can be connected to this pin to slow the oscillator frequency. Keep stray capacitance to a minimum. An external oscillator can be applied to this pin to overdrive the internal oscillator.", 8 V+ (power) "Positive Voltage Input"

## LTC660CS8#TR
designator U?
100 mA CMOS Voltage Converter, 1.5 to 5.5 V Vin, 8-pin SOIC (S8-8), 0 to 70 degC, Tape and Reel; Manufacturer: Linear Technology; PartNumber: LTC660CS8#TR; Frequency(kHz): 80; Ishutdown(uA): 1; Isupply(mA): 0.23; Vin Max(V): 5.5; Vin Min(V): 1.5; Voutput: -VIN, 2VIN; DatasheetVersion: Rev. A; PackageVersion: Rev. G, 03/2012; PackageReference: S8-8; PackageDescription: 8-Pin Plastic Small Outline (Narrow .150 Inch), Body 4.9 x 3.9 mm, Pitch 1.27 mm; Supplier 1: Digi-Key; Supplier Part Number 1: LTC660CS8#TR-ND; Packing: Tape and Reel; RoHS: FALSE; Mounting Technology: Surface Mount; ComponentLink1Description: Manufacturer URL; ComponentLink1URL: http://www.linear.com/; ComponentLink2Description: Datasheet; ComponentLink2URL: http://cds.linear.com/docs/en/datasheet/660fa.pdf; ComponentLink3Description: Package Specification; ComponentLink3URL: http://cds.linear.com/docs/en/packaging/05081610_G_SO8.pdf
footprint LT-S8-8_N (SOIC, 8-Leads, Body 5x4mm, Pitch 1.27mm, IPC Medium Density)
footprint LT-S8-8_L (SOIC, 8-Leads, Body 5x4mm, Pitch 1.27mm, IPC High Density)
footprint LT-S8-8_M (SOIC, 8-Leads, Body 5x4mm, Pitch 1.27mm, IPC Low Density)
pins: 1 BOOST "Internal Oscillator Frequency Control Pin. BOOST = Open, fOSC = 10kHz typ; BOOST = V+, fOSC = 80kHz typ; when OSC is driven externally BOOST has no effect.", 2 CAP+ "Positive Terminal for Charge Pump Capacitor", 3 GND (power) "Power Supply Ground Input", 4 CAP- "Negative Terminal for Charge Pump Capacitor", 5 VOUT (power) "Negative Voltage Output", 6 LV "Tie LV to GND when the input voltage is less than 3V. LV may be connected to GND or left open for input voltages above 3V. Connect LV to GND when overdriving OSC.", 7 OSC "An external capacitor can be connected to this pin to slow the oscillator frequency. Keep stray capacitance to a minimum. An external oscillator can be applied to this pin to overdrive the internal oscillator.", 8 V+ (power) "Positive Voltage Input"

## LTC660CS8#TRPBF
designator U?
100 mA CMOS Voltage Converter, 1.5 to 5.5 V Vin, 8-pin SOIC (S8-8), 0 to 70 degC, Pb-Free, Tape and Reel; Manufacturer: Linear Technology; PartNumber: LTC660CS8#TRPBF; Frequency(kHz): 80; Ishutdown(uA): 1; Isupply(mA): 0.23; Vin Max(V): 5.5; Vin Min(V): 1.5; Voutput: -VIN, 2VIN; DatasheetVersion: Rev. A; PackageVersion: Rev. G, 03/2012; PackageReference: S8-8; PackageDescription: 8-Pin Plastic Small Outline (Narrow .150 Inch), Body 4.9 x 3.9 mm, Pitch 1.27 mm; Supplier 1: Digi-Key; Supplier Part Number 1: LTC660CS8#TRPBFTR-ND; Supplier 2: Digi-Key; Supplier Part Number 2: LTC660CS8#TRPBFCT-ND; Supplier 3: Digi-Key; Supplier Part Number 3: LTC660CS8#TRPBFDKR-ND; Supplier 4: Newark; Supplier Part Number 4: 57M0135; Packing: Tape and Reel; RoHS: TRUE; Mounting Technology: Surface Mount; ComponentLink1Description: Manufacturer URL; ComponentLink1URL: http://www.linear.com/; ComponentLink2Description: Datasheet; ComponentLink2URL: http://cds.linear.com/docs/en/datasheet/660fa.pdf; ComponentLink3Description: Package Specification; ComponentLink3URL: http://cds.linear.com/docs/en/packaging/05081610_G_SO8.pdf
footprint LT-S8-8_N (SOIC, 8-Leads, Body 5x4mm, Pitch 1.27mm, IPC Medium Density)
footprint LT-S8-8_L (SOIC, 8-Leads, Body 5x4mm, Pitch 1.27mm, IPC High Density)
footprint LT-S8-8_M (SOIC, 8-Leads, Body 5x4mm, Pitch 1.27mm, IPC Low Density)
pins: 1 BOOST "Internal Oscillator Frequency Control Pin. BOOST = Open, fOSC = 10kHz typ; BOOST = V+, fOSC = 80kHz typ; when OSC is driven externally BOOST has no effect.", 2 CAP+ "Positive Terminal for Charge Pump Capacitor", 3 GND (power) "Power Supply Ground Input", 4 CAP- "Negative Terminal for Charge Pump Capacitor", 5 VOUT (power) "Negative Voltage Output", 6 LV "Tie LV to GND when the input voltage is less than 3V. LV may be connected to GND or left open for input voltages above 3V. Connect LV to GND when overdriving OSC.", 7 OSC "An external capacitor can be connected to this pin to slow the oscillator frequency. Keep stray capacitance to a minimum. An external oscillator can be applied to this pin to overdrive the internal oscillator.", 8 V+ (power) "Positive Voltage Input"

## LTC1044ACN8
designator U?
12 V CMOS Voltage Converter, 8-pin DIP (N8-8), 0 to 70 degC; Manufacturer: Linear Technology; PartNumber: LTC1044ACN8; Frequency(kHz): 5; Isupply(mA): 0.2; Max Iout(mA): 20; Vin Max(V): 12; Vin Min(V): 1.5; Voutput: 2Vin, -Vin, 0.5Vin; DatasheetVersion: Rev. 0; PackageVersion: Rev. I, 07/2011; PackageReference: N8-8; PackageDescription: 8-Pin PDIP, Body 10.16 x 6.48 mm, Pitch 2.54 mm; Supplier 1: Digi-Key; Supplier Part Number 1: LTC1044ACN8-ND; RoHS: FALSE; Mounting Technology: Through Hole; ComponentLink1Description: Manufacturer URL; ComponentLink1URL: http://www.linear.com/; ComponentLink2Description: Datasheet; ComponentLink2URL: http://cds.linear.com/docs/en/datasheet/lt1044a.pdf; ComponentLink3Description: Package Specification; ComponentLink3URL: http://www.linear.com/docs/en/packaging/05081510_I_N8.pdf
footprint LT-N8-8 (DIP, 8-Leads, Body 10.15x6.85mm, Pitch 2.54mm)
pins: 1 BOOST, 2 CAP+, 3 GND (power), 4 CAP-, 5 VOUT (power), 6 LV, 7 OSC, 8 V+ (power)

## LTC1044ACN8#PBF
designator U?
12 V CMOS Voltage Converter, 8-pin DIP (N8-8), 0 to 70 degC, Pb-Free; Manufacturer: Linear Technology; PartNumber: LTC1044ACN8#PBF; Frequency(kHz): 5; Isupply(mA): 0.2; Max Iout(mA): 20; Vin Max(V): 12; Vin Min(V): 1.5; Voutput: 2Vin, -Vin, 0.5Vin; DatasheetVersion: Rev. 0; PackageVersion: Rev. I, 07/2011; PackageReference: N8-8; PackageDescription: 8-Pin PDIP, Body 10.16 x 6.48 mm, Pitch 2.54 mm; Supplier 1: Digi-Key; Supplier Part Number 1: LTC1044ACN8#PBF-ND; Supplier 2: Newark; Supplier Part Number 2: 55M8885; RoHS: TRUE; Mounting Technology: Through Hole; ComponentLink1Description: Manufacturer URL; ComponentLink1URL: http://www.linear.com/; ComponentLink2Description: Datasheet; ComponentLink2URL: http://cds.linear.com/docs/en/datasheet/lt1044a.pdf; ComponentLink3Description: Package Specification; ComponentLink3URL: http://www.linear.com/docs/en/packaging/05081510_I_N8.pdf
footprint LT-N8-8 (DIP, 8-Leads, Body 10.15x6.85mm, Pitch 2.54mm)
pins: 1 BOOST, 2 CAP+, 3 GND (power), 4 CAP-, 5 VOUT (power), 6 LV, 7 OSC, 8 V+ (power)

## LTC1044ACS8
designator U?
12 V CMOS Voltage Converter, 8-pin SOIC (S8-8), 0 to 70 degC; Manufacturer: Linear Technology; PartNumber: LTC1044ACS8; Frequency(kHz): 5; Isupply(mA): 0.2; Max Iout(mA): 20; Vin Max(V): 12; Vin Min(V): 1.5; Voutput: 2Vin, -Vin, 0.5Vin; DatasheetVersion: Rev. 0; PackageVersion: Rev. G, 03/2012; PackageReference: S8-8; PackageDescription: 8-Pin Plastic Small Outline (Narrow .150 Inch), Body 4.9 x 3.9 mm, Pitch 1.27 mm; Supplier 1: Digi-Key; Supplier Part Number 1: LTC1044ACS8-ND; RoHS: FALSE; Mounting Technology: Surface Mount; ComponentLink1Description: Manufacturer URL; ComponentLink1URL: http://www.linear.com/; ComponentLink2Description: Datasheet; ComponentLink2URL: http://cds.linear.com/docs/en/datasheet/lt1044a.pdf; ComponentLink3Description: Package Specification; ComponentLink3URL: http://cds.linear.com/docs/en/packaging/05081610_G_SO8.pdf
footprint LT-S8-8_N (SOIC, 8-Leads, Body 5x4mm, Pitch 1.27mm, IPC Medium Density)
footprint LT-S8-8_L (SOIC, 8-Leads, Body 5x4mm, Pitch 1.27mm, IPC High Density)
footprint LT-S8-8_M (SOIC, 8-Leads, Body 5x4mm, Pitch 1.27mm, IPC Low Density)
pins: 1 BOOST, 2 CAP+, 3 GND (power), 4 CAP-, 5 VOUT (power), 6 LV, 7 OSC, 8 V+ (power)

## LTC1044ACS8#PBF
designator U?
12 V CMOS Voltage Converter, 8-pin SOIC (S8-8), 0 to 70 degC, Pb-Free; Manufacturer: Linear Technology; PartNumber: LTC1044ACS8#PBF; Frequency(kHz): 5; Isupply(mA): 0.2; Max Iout(mA): 20; Vin Max(V): 12; Vin Min(V): 1.5; Voutput: 2Vin, -Vin, 0.5Vin; DatasheetVersion: Rev. 0; PackageVersion: Rev. G, 03/2012; PackageReference: S8-8; PackageDescription: 8-Pin Plastic Small Outline (Narrow .150 Inch), Body 4.9 x 3.9 mm, Pitch 1.27 mm; Supplier 1: Digi-Key; Supplier Part Number 1: LTC1044ACS8#PBF-ND; Supplier 2: Farnell; Supplier Part Number 2: 1273829; Supplier 3: Newark; Supplier Part Number 3: 55M8887; RoHS: TRUE; Mounting Technology: Surface Mount; ComponentLink1Description: Manufacturer URL; ComponentLink1URL: http://www.linear.com/; ComponentLink2Description: Datasheet; ComponentLink2URL: http://cds.linear.com/docs/en/datasheet/lt1044a.pdf; ComponentLink3Description: Package Specification; ComponentLink3URL: http://cds.linear.com/docs/en/packaging/05081610_G_SO8.pdf
footprint LT-S8-8_N (SOIC, 8-Leads, Body 5x4mm, Pitch 1.27mm, IPC Medium Density)
footprint LT-S8-8_L (SOIC, 8-Leads, Body 5x4mm, Pitch 1.27mm, IPC High Density)
footprint LT-S8-8_M (SOIC, 8-Leads, Body 5x4mm, Pitch 1.27mm, IPC Low Density)
pins: 1 BOOST, 2 CAP+, 3 GND (power), 4 CAP-, 5 VOUT (power), 6 LV, 7 OSC, 8 V+ (power)

## LTC1044ACS8#TR
designator U?
12 V CMOS Voltage Converter, 8-pin SOIC (S8-8), 0 to 70 degC, Tape and Reel; Manufacturer: Linear Technology; PartNumber: LTC1044ACS8#TR; Frequency(kHz): 5; Isupply(mA): 0.2; Max Iout(mA): 20; Vin Max(V): 12; Vin Min(V): 1.5; Voutput: 2Vin, -Vin, 0.5Vin; DatasheetVersion: Rev. 0; PackageVersion: Rev. G, 03/2012; PackageReference: S8-8; PackageDescription: 8-Pin Plastic Small Outline (Narrow .150 Inch), Body 4.9 x 3.9 mm, Pitch 1.27 mm; Supplier 1: Digi-Key; Supplier Part Number 1: LTC1044ACS8#TR-ND; Packing: Tape and Reel; RoHS: FALSE; Mounting Technology: Surface Mount; ComponentLink1Description: Manufacturer URL; ComponentLink1URL: http://www.linear.com/; ComponentLink2Description: Datasheet; ComponentLink2URL: http://cds.linear.com/docs/en/datasheet/lt1044a.pdf; ComponentLink3Description: Package Specification; ComponentLink3URL: http://cds.linear.com/docs/en/packaging/05081610_G_SO8.pdf
footprint LT-S8-8_N (SOIC, 8-Leads, Body 5x4mm, Pitch 1.27mm, IPC Medium Density)
footprint LT-S8-8_L (SOIC, 8-Leads, Body 5x4mm, Pitch 1.27mm, IPC High Density)
footprint LT-S8-8_M (SOIC, 8-Leads, Body 5x4mm, Pitch 1.27mm, IPC Low Density)
pins: 1 BOOST, 2 CAP+, 3 GND (power), 4 CAP-, 5 VOUT (power), 6 LV, 7 OSC, 8 V+ (power)